# EAGLE library part MICROSDMODULE (library MicroSDMocule)
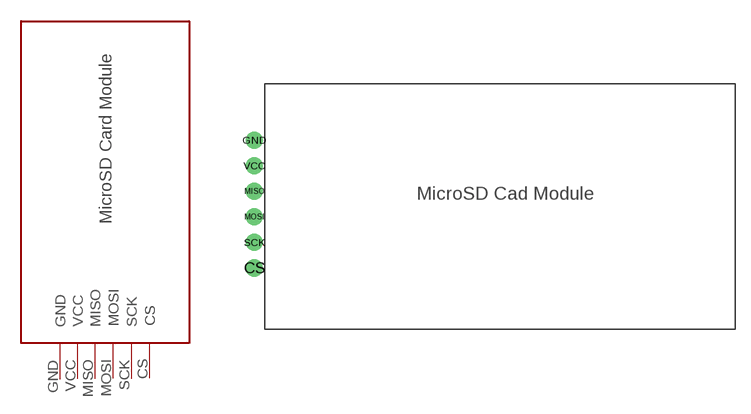
[diagram p0: symbol with the pads of MICROSDMODULE; footprint MICROSDMODULE]

Designator prefix -

## MICROSDMODULE  [MICROSDMODULE]
CS  CS
GND  GND
MISO  MISO
MOSI  MOSI
SCK  SCK
VCC  VCC

## Footprint MICROSDMODULE (pad centres in mm)
drill 1 pad 1.676: CS -23.86,-6.62; GND -23.86,5.88; MISO -23.86,0.88; MOSI -23.86,-1.62; SCK -23.86,-4.12; VCC -23.86,3.38